# Altium schematic symbol library PMEG45U10EPDZ.SchLib: 2 symbols
Pins are listed as number, name and electrical type; pins without a type are passive.

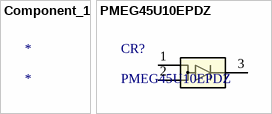
[diagram p0: symbols Component_1 to PMEG45U10EPDZ]

## Component_1
designator *

## PMEG45U10EPDZ
designator CR?
No Description Available; Manufacturer_Name: Nexperia; Copyright: Copyright (C) 2025 Ultra Librarian. All rights reserved.; Manufacturer_Part_Number: PMEG45U10EPDZ; RefDes: RefDes; Type: Type
footprint PMEG45U10EPDZ_NEX
pins: 1, 2, 3